# Altium schematic symbol library SCHLib.SchLib: 80 symbols (part 3 of 3)
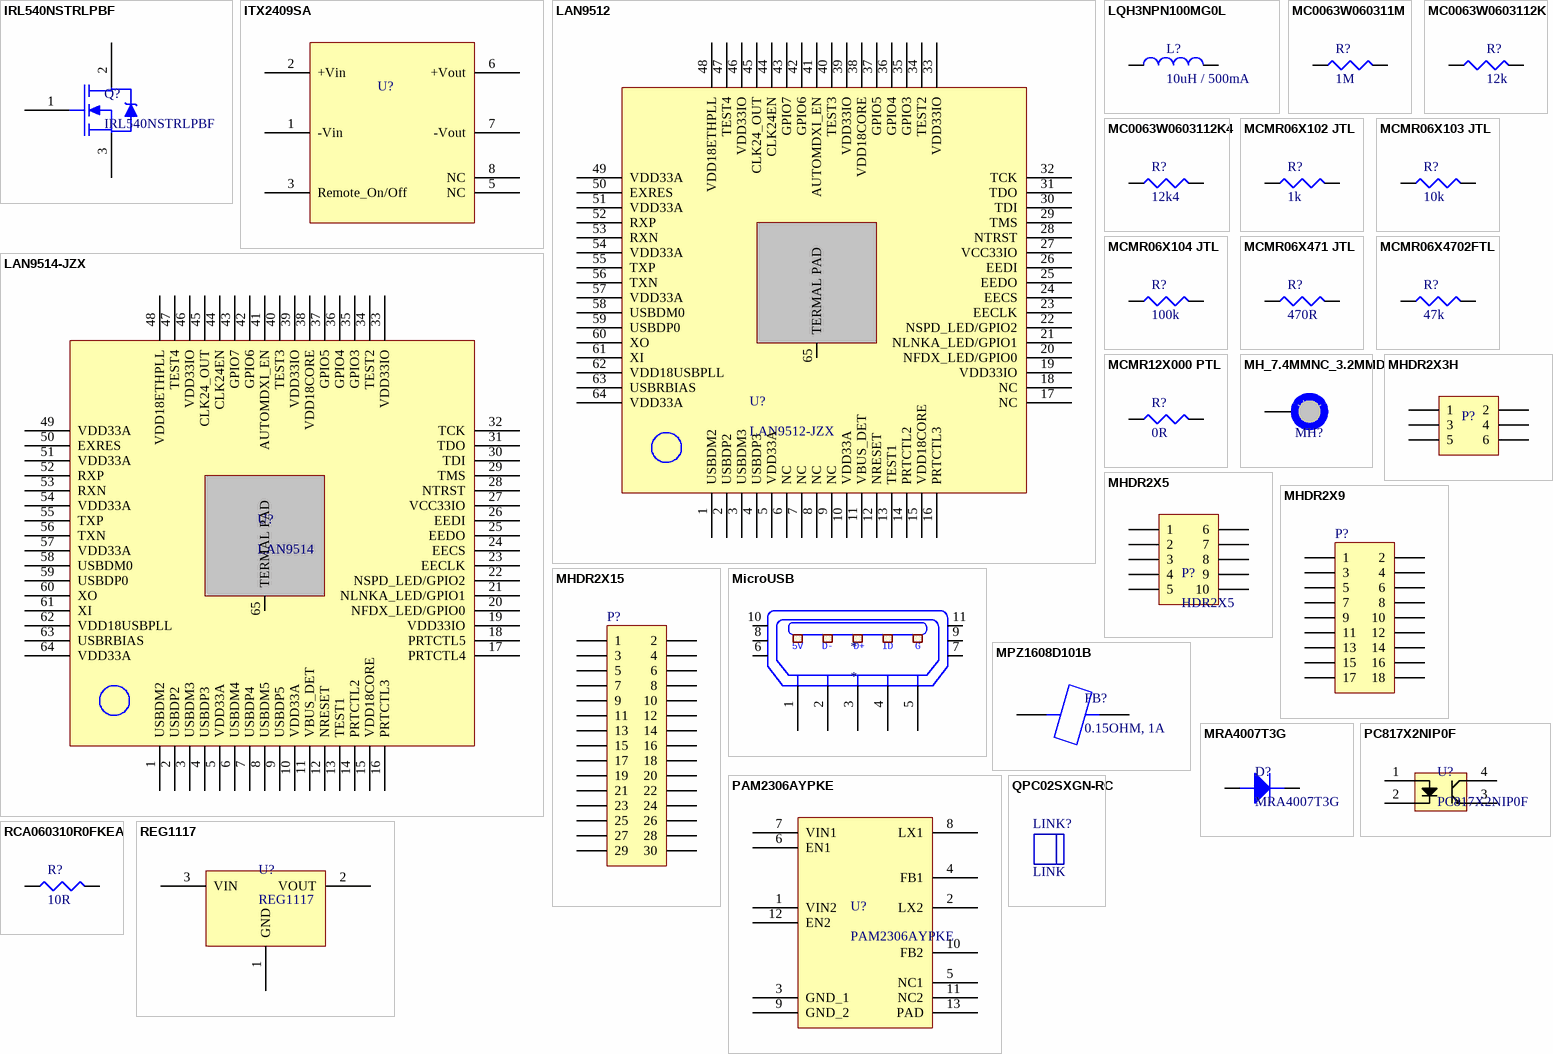
[diagram p4: symbols IRL540NSTRLPBF to REG1117]

## PC817X2NIP0F
designator U?
SHARP - PC817X2NIP0F - OPTOCOUPLER, PHOTOTRANSISTOR, 5KV; No. of Channels: 1 Channel; Optocoupler Case Style: SMD; No. of Pins: 4; Forward Current If Max: 50; Isolation Voltage: 5; CTR Min: 50%; Collector Emitter Voltage V(br)ceo: 80; Product Range: PC8 Series; Output Voltage: 80V<!--FANDB--><div class="features-and-benefits-container"><div class="features-and-benefits-desc-container"><span class="features-and-benefits-container-desc">Optocoupler, Transistor Output, 1 Channel, SMD, 4 Pins, 50 mA, 5 kV, 50 %</span></div><div class="features-and-benefits-description"><span class="features-benefits-value">The PC817X2NIP0F is a Phototransistor Optocoupler with 1 channel and SnCu-plated copper alloy pin construction.</span></div><div class="features-and-benefits-list"><ul class="features-and-benefits-list-list"><li class="features-and-benefits-list-item">6V Reverse voltage</li><li class="features-and-benefits-list-item">70; Supplier 1: Farnell; Manufacturer: SHARP; Manufacturer Part Number: PC817X2NIP0F; RoHS: YES; Stock 1: 3897; Pricing 1: 1=0.367, 25=0.342, 100=0.247, 250=0.23, 500=0.213, 1000=0.141 (GBP); Packaging: Cut Tape; Input Current: 50; MSL: MSL 1 - Unlimited; Optocoupler Output Type: Phototransistor; ComponentLink1URL: http://www.farnell.com/datasheets/1812378.pdf; ComponentLink1Description: http://www.farnell.com/datasheets/1812378.pdf; Supplier Part Number 1: 2420054
footprint SOP127P600-8N
pins: 1 (oc), 2 (oc), 3 (oc), 4 (oc)

## QPC02SXGN-RC
designator LINK?, comment LINK  (mechanical)
CONN JUMPER SHORTING .100" GOLD; Manufacturer: Sullins Connector Solutions; Manufacturer Part Number: QPC02SXGN-RC; Gender: Female Sockets; Number of Positions or Pins (Grid): 2 (1 x 2); Pitch: 0.100" (2.54mm); .Checked SCH: used; Supplier 1: Digi-Key; Supplier Part Number 1: S9337-ND; RoHS: RoHS Compliant; Category: Connectors, Interconnects; Stock 1: 23274; Pricing 1: 1=0.11, 10=0.066, 25=0.0468, 50=0.0384, 100=0.033, 250=0.02792, 500=0.0258, 1000=0.0228, 2500=0.018 (USD); Type: Open Top; Height: 0.235" (5.97mm); Contact Finish: Gold; Contact Finish Thickness: Flash; Color: -; Packaging: Bulk; ComponentLink1URL: http://www.sullinscorp.com/drawings/284_SXGN_11510.pdf; ComponentLink1Description: http://www.sullinscorp.com/drawings/284_SXGN_11510.pdf
footprint JUMPER

## RCA060310R0FKEA
designator R?, comment 10R
VISHAY - RCA060310R0FKEA - RES, AUTO, THICK FILM, 10R, 1%, 0603; Resistance: 10; Voltage Rating: 75; Resistor Case Style: 0603 [1608 Metric]; Power Rating: 100; Product Range: RCA Series; Temperature Coefficient: ± 100; Automotive Qualification Standard: AEC-Q200; SVHC: No SVHC (17-Dec-2015)<!--FANDB--><div class="features-and-benefits-container"><div class="features-and-benefits-description"><span class="features-benefits-value">The RCA series from Vishay are automotive grade, sulphur resistant thick film rectangular chip resistors. The resistance range includes E24 and E96 decade values from 1ohm to 10Mohm. They provide superior resistance against H2S atmosphere. These resistors have metal glaze on high quality ceramic.</span></div><div class="features-and-benefits-list"><ul class="features-and-benefits-list-list"><li class="features-and-benefits-list-item">Automotive grade AEC-Q200 qualified (rev C)</li><li class="features-and-benefits-list-item">EIA 0402, 0603, 0805, 1206, 1210, 1218, 2010 and 2512 case sizes available</li><li class="features-and-benefits-list-item">Available in ±0.5%, ±1% and ±5% tolerances</li><li class="features-and-benefits-list-item">Jumpers are also available</li><li class="features-and-benefits-list-item">±50ppm/K, ±100ppm/K and ±200ppm/K TCR values</li><li class="features-and-benefits-list-item">Power rating of 0.063W, 0.10W, 0.125W, 0.25W, 0.5W, 0.75W and 1W at 70?C</li><li class="features-and-benefits-list-item">Available in 50V, 75V, 150V, 200V, 400V and 500V limiting voltage options</li><li class="features-and-benefits-list-item">Category temperature range from -55?C to 155?C</li><li class="features-and-benefits-list-item">Stability ?R/R = 1 % for 1000h at 70; Supplier 1: Farnell; Manufacturer: VISHAY; Manufacturer Part Number: RCA060310R0FKEA; RoHS: YES; Stock 1: 9559; Pricing 1: 10=0.0803, 100=0.0386, 500=0.0235, 2500=0.015, 5000=0.0135, 10000=0.0108, 50000=0.0068, 100000=0.0067 (GBP); Resistance Tolerance: ± 1%; Packaging: Cut Tape; Resistor Element Material: Thick Film; ComponentLink1URL: http://www.farnell.com/datasheets/2111201.pdf; ComponentLink1Description: http://www.farnell.com/datasheets/2111201.pdf; Supplier Part Number 1: 2616585
footprint RES0603
pins: 1, 2

## REG1117
designator U?
TEXAS INSTRUMENTS - REG1117 - V REG LDO ADJ +1.5/13.7V, SMD, 1117; Output Type: Adjustable; Input Voltage Min: 3.8; Input Voltage Max: 15; Adjustable Output Voltage Min: 1.5; Adjustable Output Voltage Max: 13.5; Output Current: 800; Dropout Voltage Vdo: 1.1; LDO Regulator Case Style: SOT-223; No. of Pins: 3; SVHC: No SVHC (15-Jun-2015); Accuracy %: 1%; Base Number: 1117; No. of Outputs: 1; Output Current Max: 0.8; Output Voltage Adjustable Range: 1.25V to 10; Voltage Regulator Type: Positive Adjustable<!--FANDB--><div class="features-and-benefits-container"><div class="features-and-benefits-description"><span class="features-benefits-value">The REG1117 is a 800mA low dropout Positive Regulator with variety of fixed-and adjustable-voltage versions. Output voltage of the adjustable versions is set with two external resistors. The REG1117 low dropout voltage allows its use with as little as 1; Supplier 1: Farnell; Manufacturer: TEXAS INSTRUMENTS; Manufacturer Part Number: REG1117; RoHS: TBA; Stock 1: 611; Pricing 1: 1=2.02, 10=1.53, 100=1.23, 250=1.06, 1000=0.887, 3000=0.861, 6000=0.835, 10000=0.809 (GBP); Fixed Output Voltage Nom.: -; Operating Temperature Min: -40; Operating Temperature Max: 125; Packaging: Each; Product Range: -; Automotive Qualification Standard: -; MSL: MSL 1 - Unlimited; Operating Temperature Range: 0°C to +125; Operating Voltage Tolerance +: 1%; Output Voltage: 13.5; Output Voltage Max: 13.5; Output Voltage Min: 1.5; Primary Input Voltage: 15; Supply Voltage Min: 3.8; Termination Type: Surface Mount Device; ComponentLink1URL: http://www.farnell.com/datasheets/1919259.pdf; ComponentLink1Description: http://www.farnell.com/datasheets/1919259.pdf; Supplier Part Number 1: 1097566
footprint TI-DCY4_N (SOT223, 4-Leads, Body 6.5x3.5mm, Pitch 2.3mm, IPC Medium Density)
pins: 1 GND, 2 VOUT, 3 VIN

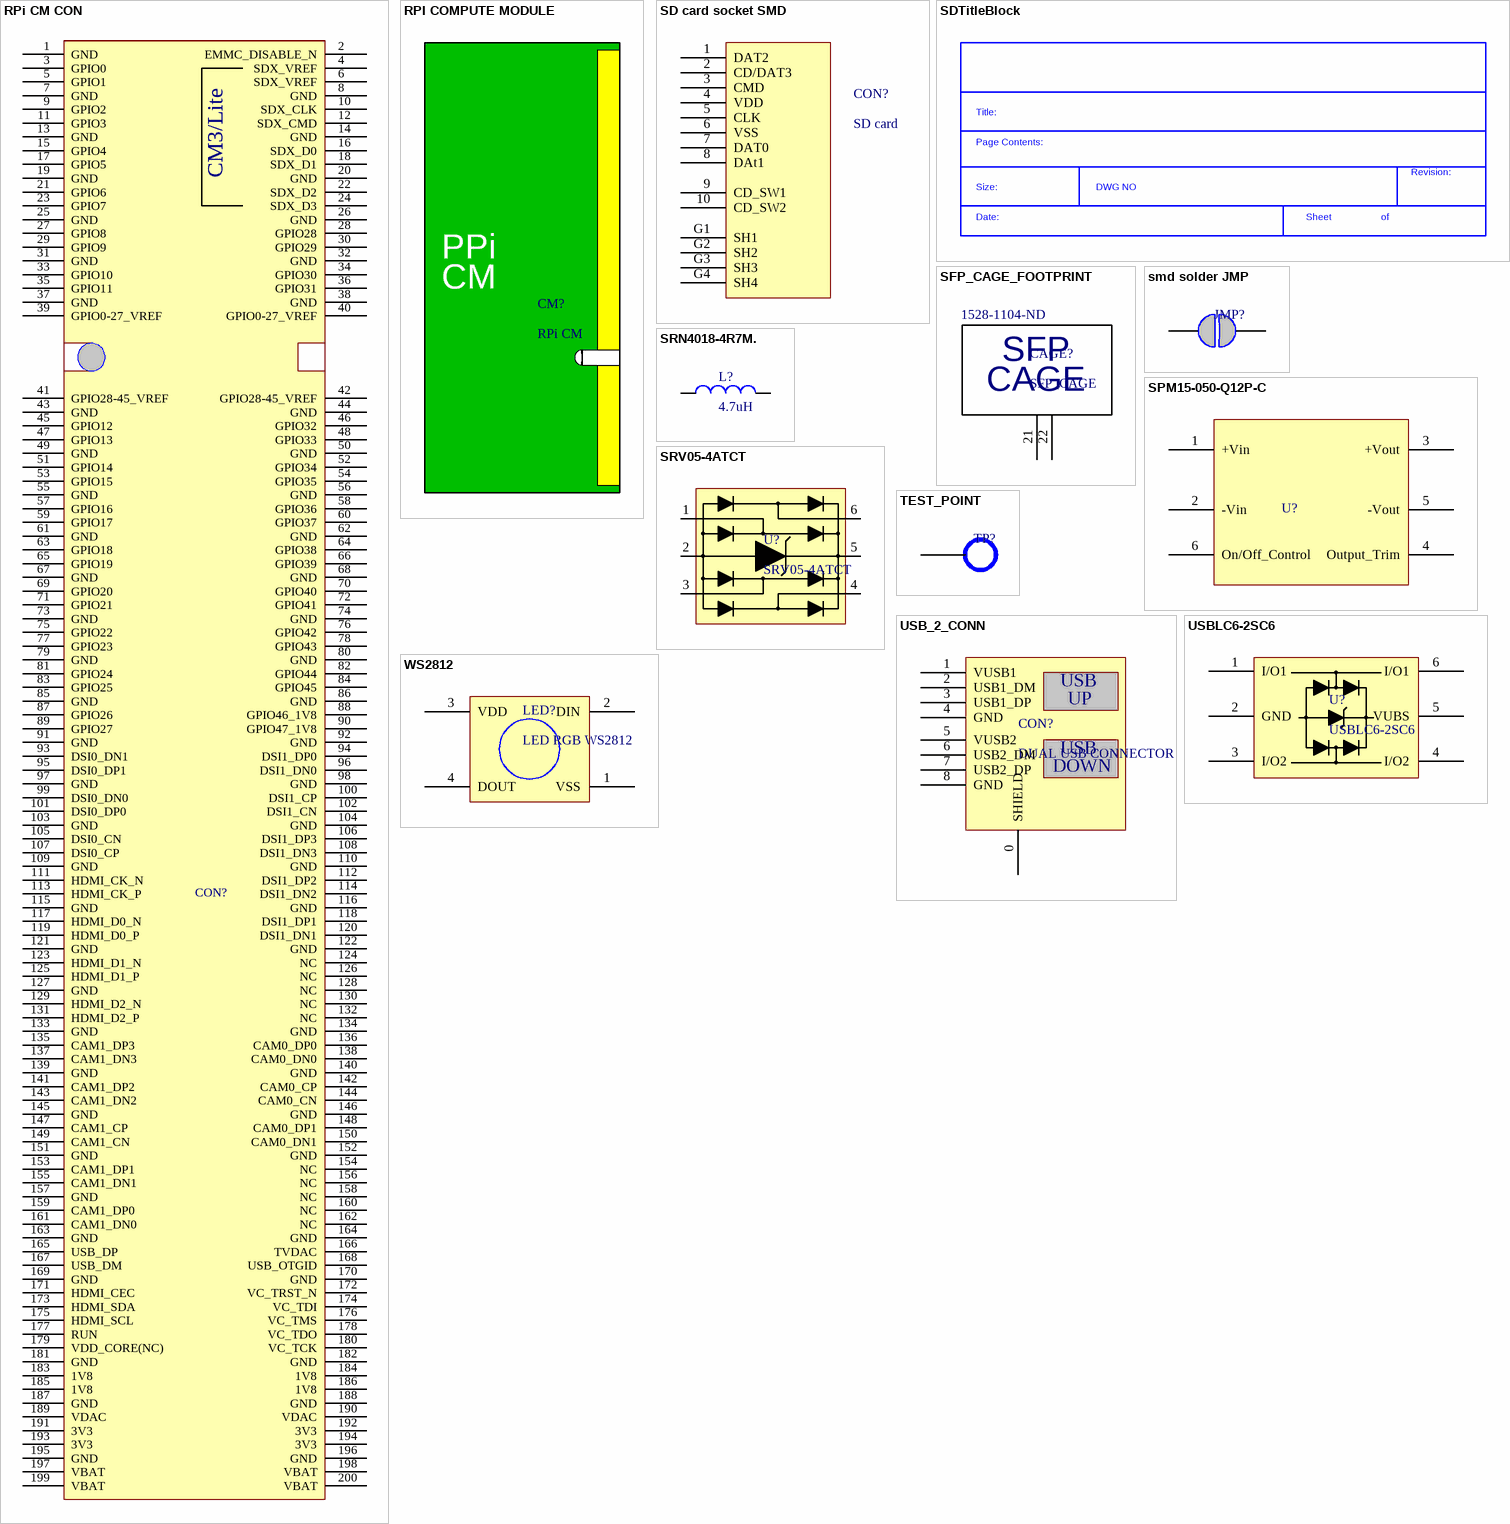
[diagram p2: symbols RPi CM CON to WS2812]

## RPi CM CON
designator CON?, comment 1473005-4  (value not drawn)
DDR2 SODIMM connector for Raspberry Pi compute module 1/3/3-Lite; Manufacturer: AMP - TE CONNECTIVITY; Connector Type: Memory Socket; No. of Contacts: 200; SVHC: No SVHC (15-Jun-2015); Contact Termination: Surface Mount Right Angle; Contact Termination Type: Surface Mount; Pitch Spacing: 0.6; Range: Standard; Row Pitch: 6.2mm<!--FANDB--><div class="features-and-benefits-container"><div class="features-and-benefits-description"><span class="features-benefits-value">The 1473005-4 from TE Connectivity is a standard type DDR2 SODIMM socket. It is a 0.6mm pitch, 200 positions, semi hard tray DDR2 socket.</span></div><div class="features-and-benefits-list"><ul class="features-and-benefits-list-list"><li class="features-and-benefits-list-item">Right angled orientation</li><li class="features-and-benefits-list-item">2 rows and 2 bays</li><li class="features-and-benefits-list-item">DRAM voltage and SGRAM voltage?is 1.8; Supplier 1: Farnell; Manufacturer Part Number: 1473005-4; RoHS: YES; Stock 1: 735; Pricing 1: 1=3.72, 25=2.82, 100=2.62, 250=2.53, 500=2.49, 2000=2.45, 3000=2.41, 5000=2.37 (GBP); Product Range: -; Contact Material: Copper; Contact Plating: Gold Plated Contacts; Lead Spacing: 0.6; Orientation: Right Angle; ComponentLink1URL: http://www.farnell.com/datasheets/2258267.pdf; ComponentLink1Description: http://www.farnell.com/datasheets/2258267.pdf; ComponentLink2URL: http://www.farnell.com/cad/1649684.pdf; ComponentLink2Description: http://www.farnell.com/cad/1649684.pdf; ComponentLink3URL: http://www.farnell.com/datasheets/582309.pdf; ComponentLink3Description: http://www.farnell.com/datasheets/582309.pdf; Supplier Part Number 1: 1095877
footprint BTB-SM0-6-2V200
pins: 1 GND, 2 EMMC_DISABLE_N, 3 GPIO0, 4 SDX_VREF, 5 GPIO1, 6 SDX_VREF, 7 GND, 8 GND, 9 GPIO2, 10 SDX_CLK, 11 GPIO3, 12 SDX_CMD, 13 GND, 14 GND, 15 GPIO4, 16 SDX_D0, 17 GPIO5, 18 SDX_D1, 19 GND, 20 GND, 21 GPIO6, 22 SDX_D2, 23 GPIO7, 24 SDX_D3, 25 GND, 26 GND, 27 GPIO8, 28 GPIO28, 29 GPIO9, 30 GPIO29, 31 GND, 32 GND, 33 GPIO10, 34 GPIO30, 35 GPIO11, 36 GPIO31, 37 GND, 38 GND, 39 GPIO0-27_VREF, 40 GPIO0-27_VREF, 41 GPIO28-45_VREF, 42 GPIO28-45_VREF, 43 GND, 44 GND, 45 GPIO12, 46 GPIO32, 47 GPIO13, 48 GPIO33, 49 GND, 50 GND, 51 GPIO14, 52 GPIO34, 53 GPIO15, 54 GPIO35, 55 GND, 56 GND, 57 GPIO16, 58 GPIO36, 59 GPIO17, 60 GPIO37, 61 GND, 62 GND, 63 GPIO18, 64 GPIO38, 65 GPIO19, 66 GPIO39, 67 GND, 68 GND, 69 GPIO20, 70 GPIO40, 71 GPIO21, 72 GPIO41, 73 GND, 74 GND, 75 GPIO22, 76 GPIO42, 77 GPIO23, 78 GPIO43, 79 GND, 80 GND, 81 GPIO24, 82 GPIO44, 83 GPIO25, 84 GPIO45, 85 GND, 86 GND, 87 GPIO26, 88 GPIO46_1V8, 89 GPIO27, 90 GPIO47_1V8, 91 GND, 92 GND, 93 DSI0_DN1, 94 DSI1_DP0, 95 DSI0_DP1, 96 DSI1_DN0, 97 GND, 98 GND, 99 DSI0_DN0, 100 DSI1_CP, 101 DSI0_DP0, 102 DSI1_CN, 103 GND, 104 GND, 105 DSI0_CN, 106 DSI1_DP3, 107 DSI0_CP, 108 DSI1_DN3, 109 GND, 110 GND, 111 HDMI_CK_N, 112 DSI1_DP2, 113 HDMI_CK_P, 114 DSI1_DN2, 115 GND, 116 GND, 117 HDMI_D0_N, 118 DSI1_DP1, 119 HDMI_D0_P, 120 DSI1_DN1, 121 GND, 122 GND, 123 HDMI_D1_N, 124 NC, 125 HDMI_D1_P, 126 NC, 127 GND, 128 NC, 129 HDMI_D2_N, 130 NC, 131 HDMI_D2_P, 132 NC, 133 GND, 134 GND, 135 CAM1_DP3, 136 CAM0_DP0, 137 CAM1_DN3, 138 CAM0_DN0, 139 GND, 140 GND, 141 CAM1_DP2, 142 CAM0_CP, 143 CAM1_DN2, 144 CAM0_CN, 145 GND, 146 GND, 147 CAM1_CP, 148 CAM0_DP1, 149 CAM1_CN, 150 CAM0_DN1, 151 GND, 152 GND, 153 CAM1_DP1, 154 NC, 155 CAM1_DN1, 156 NC, 157 GND, 158 NC, 159 CAM1_DP0, 160 NC, 161 CAM1_DN0, 162 NC, 163 GND, 164 GND, 165 USB_DP, 166 TVDAC, 167 USB_DM, 168 USB_OTGID, 169 GND, 170 GND, 171 HDMI_CEC, 172 VC_TRST_N, 173 HDMI_SDA, 174 VC_TDI, 175 HDMI_SCL, 176 VC_TMS, 177 RUN, 178 VC_TDO, 179 VDD_CORE(NC), 180 VC_TCK, 181 GND, 182 GND, 183 1V8, 184 1V8, 185 1V8, 186 1V8, 187 GND, 188 GND, 189 VDAC, 190 VDAC, 191 3V3, 192 3V3, 193 3V3, 194 3V3, 195 GND, 196 GND, 197 VBAT, 198 VBAT, 199 VBAT, 200 VBAT
text: CM3/Lite

## RPI COMPUTE MODULE
designator CM?, comment RPi CM  (mechanical)
RASPBERRY-PI - RPI COMPUTE MODULE - COMPUTE MODULE, RASPBERRY PI DEV BOARD; Silicon Manufacturer: Broadcom; Core Architecture: ARM; Core Sub-Architecture: ARM1176; Silicon Core Number: BCM2835; Silicon Family Name: BCM2; For Use With: Raspberry Pi Compute Development Kit; Kit Contents: Compute Module BCM2835; Kit Features: Flexible & Rapid Prototype Development, Small & Powerful, Many More GPIOs & Interfaces<!--FANDB--><div class="features-and-benefits-container"><div class="features-and-benefits-desc-container"><span class="features-and-benefits-container-desc">Raspberry Pi Compute Module</span></div><div class="features-and-benefits-description"><span class="features-benefits-value">Flexible & Rapid Prototype Development, Small & Powerful, Many More GPIOs & Interfaces</span></div><div class="features-and-benefits-list"><ul class="features-and-benefits-list-list"><li class="features-and-benefits-list-item">Flexible & Rapid Prototype Development, Small & Powerful, Many More GPIOs & Interfaces</li></ul></div></div>; Supplier 1: Farnell; Manufacturer: RASPBERRY-PI; Manufacturer Part Number: RPI COMPUTE MODULE; RoHS: YES; Pricing 1: 1=19.5 (GBP); Product Range: -; Features: 512MB RAM, SODIMM Sized 6.5cm by 3cm Board, 200pin Edge Connector, On-board 4; ComponentLink1URL: http://bcove.me/qikksixg; ComponentLink1Description: http://bcove.me/qikksixg; ComponentLink2URL: http://www.farnell.com/datasheets/1829397.pdf; ComponentLink2Description: http://www.farnell.com/datasheets/1829397.pdf; Supplier Part Number 1: 2427122
text: PPi; CM

## SD card socket SMD
designator CON?, comment SD card
CONN MICRO SD CARD PUSH-PULL R/A; Manufacturer: Molex, LLC; Manufacturer Part Number: 1040310811; Card Type: Secure Digital - microSD™; Number of Positions: 10 (8 + 2); Connector Type: Connector; Insertion, Removal Method: Push In, Pull Out; Supplier 1: Digi-Key; RoHS: RoHS Compliant; Category: Connectors, Interconnects; Stock 1: 22429; Pricing 1: 1=1.92, 10=1.742, 25=1.6352, 50=1.564, 100=1.493, 250=1.35076, 500=1.24412, 1000=1.0664 (USD); Packaging: Cut Tape (CT); Part Status: Active; Ejector Side: -; Mounting Type: Surface Mount, Right Angle; Features: -; Height Above Board: 0.056" (1.42mm); Mounting Feature: Normal, Standard - Top; Contact Finish: Gold; Contact Finish Thickness: 8µin (0.20µm); ComponentLink1URL: http://www.molex.com/pdm_docs/sd/1040310811_sd.pdf; ComponentLink1Description: http://www.molex.com/pdm_docs/sd/1040310811_sd.pdf; Supplier Part Number 1: WM6357CT-ND
footprint MICRO SD CARD SOCKET
pins: 1 DAT2 (oc), 2 CD/DAT3 (oc), 3 CMD (oc), 4 VDD (oc), 5 CLK (oc), 6 VSS (oc), 7 DAT0 (oc), 8 DAt1 (oc), 9 CD_SW1 (oc), 10 CD_SW2 (oc), G1 SH1 (oc), G2 SH2 (oc), G3 SH3 (oc), G4 SH4 (oc)

## SDTitleBlock
designator *?  (value not drawn)  (graphical)
text: Title:; Page Contents:; Revision:; Size:; DWG NO; Date:; Sheet; of

## SFP_CAGE_FOOTPRINT
designator CAGE?, comment SFP_CAGE  Supplier Part Number 2: 1528-1104-ND
TE CONNECTIVITY - 2007194-1 - CAGE, 1X1, SFP+, PCI APPLICATIONS; Accessory Type: Connector Cage / Frame; For Use With: Small Form-Factor Pluggable Connectors; Connector Mounting: PCB Mount; Connector Mounting Orientation: PC Board; Connector Type: SFP; Contact Termination: Solder; Configuration: Discrete; Number of LEDs: 10; Utilized LED: SK6812 or WS2812; Interface: Serial (Shift Register); Supplier 1: Farnell; Manufacturer: TE CONNECTIVITY; Manufacturer Part Number: 2007194-1; RoHS: YES; Stock 1: 26; Pricing 1: 1=4.6, 5=4.41, 10=4.22, 25=4.03, 50=3.5, 200=3.18, 500=2.86, 2000=2.8 (GBP); Product Range: -; Material: Nickel Silver<!--FANDB--><div class="features-and-benefits-container"><div class="features-and-benefits-description"><span class="features-benefits-value">The 2007194-1 is a 1-port Cage Assembly with external springs and solder through-hole termination. It is made with nickel silver single cage. The SFP+ pluggable cage designed to support data rate of 16Gbps. This SFP+ pluggable cage has one degree mounting angle to meet the requirements of SFF-8075 for PCI card applications and support belly-to-belly mount applications.</span></div><div class="features-and-benefits-applications"><ul class="features-and-benefits-value"><li class="features-and-benefits-list-item">Industrial</li></ul></div></div>; ComponentLink1URL: http://www.farnell.com/datasheets/1654545.pdf; ComponentLink1Description: http://www.farnell.com/datasheets/1654545.pdf; ComponentLink2URL: http://www.farnell.com/cad/1661409.pdf; ComponentLink2Description: http://www.farnell.com/cad/1661409.pdf; ComponentLink3URL: http://www.farnell.com/datasheets/1922296.pdf; ComponentLink3Description: http://www.farnell.com/datasheets/1922296.pdf; Supplier Part Number 1: 1755779; Supplier 2: Digi-Key; Category: Optoelectronics; Stock 2: 7416; Pricing 2: 1=4.5, 10=4.05 (USD); Part Status: Active; Color: Red, Green, Blue (RGB); Controller Type: -; Mounting Type: Surface Mount; Size / Dimension: 5.00mm L x 5.00mm W; ComponentLink4URL: https://cdn-shop.adafruit.com/product-files/1138/SK6812+LED+datasheet+.pdf; ComponentLink4Description: https://cdn-shop.adafruit.com/product-files/1138/SK6812+LED+datasheet+.pdf
footprint PCB_SFP_CAGE_FOOTPRINT
pins: 21 (oc), 22 (oc)
text: CAGE

## smd solder JMP
designator JMP?  (value not drawn)  (no BOM)
footprint RES0603
pins: 1 (oc), 2 (oc)

## SPM15-050-Q12P-C
designator U?  (value not drawn)
Isolated Board Mount DC/DC Converter, Medical, Fixed, 1 Output, 9 V, 36 V, 15 W, 5 V; Manufacturer: MURATA POWER SOLUTIONS; Input Voltage DC Min: 9; Input Voltage DC Max: 36; Output Power Max: 15; Output Voltage - Output 1: 5; Output Current - Output 1: 3; DC / DC Converter Type: DIP; DC / DC Converter Mounting: Through Hole; Approvals & Standards: CAN, CSA, IEC, UL; Product Range: SPM15 Series; SVHC: No SVHC (17-Dec-2015)<!--FANDB--><div class="features-and-benefits-container"><div class="features-and-benefits-description"><span class="features-benefits-value">The SPM15-050-Q12P-C is an isolated DC-DC Converter represents the next generation in Industrial Potted Module Technology. Featuring a full 15W output in one square inch of board area, the device isolated DC-DC converter offers efficient regulated DC power for printed circuit board mounting. The 1 x 1 x 0.41-inch converter accepts a wide range of input voltages, ideal for industrial applications. The converter offers a feature/option set including through-hole mounting, positive or negative logic (remote ON/OFF), overcurrent and overtemperature protection, under-voltage lockout. The input voltage range covers the standard Industrial requirements with a regulated output voltage and power rating up to 15W. Modules provide voltage isolation (basic insulation) from input to output of up to 1600V. .The Module delivers full output power to 70°C with no airflow. It is ideal for applications that do not require any heat sinking or forced air cooling.</span></div><div class="features-and-benefits-list"><ul class="features-and-benefits-list-list"><li class="features-and-benefits-list-item">High efficiency</li><li class="features-and-benefits-list-item">Monotonic start-up</li><li class="features-and-benefits-list-item">Continuous short circuit protection</li><li class="features-and-benefits-list-item">Low output ripple and noise</li><li class="features-and-benefits-list-item">Strong thermal derating characteristics</li><li class="features-and-benefits-list-item">Positive ON/OFF control logic</li><li class="features-and-benefits-list-item">1600V I/O isolation</li><li class="features-and-benefits-list-item">±0.1 Load and ±0.05% line maximum regulation</li><li class="features-and-benefits-list-item">88% Typical efficiency</li><li class="features-and-benefits-list-item">100; No. of Contacts: 20; Gender: Receptacle; Connector Type: SFP; Contact Termination Type: Solder; Connector Mounting: PCB Mount; Connector Mounting Orientation: Surface Mount; Supplier 1: Farnell; Manufacturer Part Number: SPM15-050-Q12P-C; RoHS: Y-EX; Stock 1: 84; Pricing 1: 1=29.43, 10=29.19, 25=28.95, 50=28.71 (GBP); DC / DC Converter Output Type: Fixed; No. of Outputs: 1 Output; Output Voltage - Output 2: -; Output Current - Output 2: -; Width: 25.4; Height: 10.41; Depth: 25.4; Output Voltage - Output 3: -; Output Current - Output 3: -; ComponentLink1URL: http://www.farnell.com/datasheets/1932853.pdf; ComponentLink1Description: http://www.farnell.com/datasheets/1932853.pdf; ComponentLink2URL: http://www.farnell.com/datasheets/2239469.pdf; ComponentLink2Description: http://www.farnell.com/datasheets/2239469.pdf; Supplier 2: Mouser; Supplier Part Number 1: 2470131; Supplier Part Number 2: 580-SPM15-050-Q12P-C; Contact Plating: Gold Plated Contacts; Contact Material: Phosphor Bronze; Colour: Black; Contact Termination: Solder; Flammability Rating: UL 94V-0; Material: Liquid Crystal Polymer (LCP); Packaging: Cut Tape; Termination Method: Solder<!--FANDB--><div class="features-and-benefits-container"><div class="features-and-benefits-description"><span class="features-benefits-value">The 1367073-1 is a 20-pin 1-port surface-mount SFP Connector with gold-plated phosphor bronze contacts and black LCP housing. The connector features integrated light pipes for port indicators, connectors with improved signal integrity, enhanced EMI springs for increased EMI suppression and riding heat sink technology for thermal management.</span></div><div class="features-and-benefits-list"><ul class="features-and-benefits-list-list"><li class="features-and-benefits-list-item">Supports applications up to 4Gbps</li><li class="features-and-benefits-list-item">Cages available in single port, ganged and stacked configurations</li><li class="features-and-benefits-list-item">Stacked cages have integrated connectors, press-fit in one process step</li><li class="features-and-benefits-list-item">Uses 20 position PT (pluggable transceiver) connector</li><li class="features-and-benefits-list-item">Direct attach copper cable assemblies for lower cost with short reach</li><li class="features-and-benefits-list-item">Integrated light pipes for port indicators</li><li class="features-and-benefits-list-item">Enhanced EMI springs for increased EMI suppression</li><li class="features-and-benefits-list-item">Riding heat sink technology for thermal management</li></ul></div><div class="features-and-benefits-applications"><ul class="features-and-benefits-value"><li class="features-and-benefits-list-item">Industrial</li></ul></div></div>; ComponentLink3URL: http://www.tycoelectronics.com/commerce/DocumentDelivery/DDEController?Action=srchrtrv&DocNm=1367073-1&DocType=Customer+View+Model&DocLang=English; ComponentLink3Description: http://www.tycoelectronics.com/commerce/DocumentDelivery/DDEController?Action=srchrtrv&DocNm=1367073-1&DocType=Customer+View+Model&DocLang=English; ComponentLink4URL: http://www.farnell.com/cad/1794462.pdf; ComponentLink4Description: http://www.farnell.com/cad/1794462.pdf; ComponentLink5URL: http://www.tycoelectronics.com/commerce/DocumentDelivery/DDEController?Action=srchrtrv&DocNm=408-8495&DocType=Specification+Or+Standard&DocLang=English; ComponentLink5Description: http://www.tycoelectronics.com/commerce/DocumentDelivery/DDEController?Action=srchrtrv&DocNm=408-8495&DocType=Specification+Or+Standard&DocLang=English; ComponentLink6URL: http://www.farnell.com/datasheets/1650946.pdf; ComponentLink6Description: http://www.farnell.com/datasheets/1650946.pdf
footprint DCDC_M2
pins: 1 +Vin, 2 -Vin, 3 +Vout, 4 Output_Trim, 5 -Vout, 6 On/Off_Control

## SRN4018-4R7M.
designator L?, comment 4.7uH
BOURNS - SRN4018-4R7M. - INDUCTOR, SEMI-SHIELDED, 4.7uH, 1.9A, 20%, SMD; Product Range: SRN4018 Series; Inductance: 4.7 H; Inductor Construction: Semishielded; DC Resistance Max: 0.084; RMS Current (Irms): 1.9; Supplier 1: Farnell; Manufacturer: BOURNS; Manufacturer Part Number: SRN4018-4R7M.; RoHS: YES; Stock 1: 1456; Pricing 1: 1=0.373, 10=0.269, 100=0.197, 250=0.186, 500=0.17, 1000=0.144 (GBP); Inductance Tolerance: 20%; Packaging: Cut Tape; ComponentLink1URL: http://www.farnell.com/datasheets/1684089.pdf; ComponentLink1Description: http://www.farnell.com/datasheets/1684089.pdf; Supplier Part Number 1: 2408944
footprint INDP4040X18N (Precision Wire Wound Inductor, 2-Leads, Body 4.00x4.00mm, IPC Medium Density)
pins: 1, 2

## SRV05-4ATCT
designator U?
TVS DIODE 5VWM 17.5VC SOT23-6; Manufacturer: Semtech Corporation; Voltage - Reverse Standoff (Typ): 5V (Max); Voltage - Breakdown (Min): 6V; Voltage - Clamping (Max) @ Ipp: 17.5V; Current - Peak Pulse (10/1000µs): 12A (8/20µs); Power - Peak Pulse: 300W; Power Line Protection: Yes; Capacitance @ Frequency: 3pF @ 1MHz; Supplier 1: Digi-Key; Manufacturer Part Number: SRV05-4ATCT; RoHS: RoHS Compliant; Category: Circuit Protection; Stock 1: 15433; Pricing 1: 1=1.19, 10=1.054, 25=0.9516, 100=0.8328, 250=0.7308, 500=0.64582, 1000=0.50985 (USD); Packaging: Cut Tape (CT); Part Status: Active; Type: Steering (Rail to Rail); Applications: General Purpose; Operating Temperature: -55°C ~ 125°C (TJ); Mounting Type: Surface Mount; Package / Case: SOT-23-6; Supplier Device Package: SOT-23-6; ComponentLink1URL: http://www.semtech.com/images/datasheet/srv05-4a.pdf; ComponentLink1Description: http://www.semtech.com/images/datasheet/srv05-4a.pdf; Supplier Part Number 1: SRV05-4ATCTCT-ND
footprint SOT23127P600-8N
pins: 1 (oc), 2 (oc), 3 (oc), 4 (oc), 5 (oc), 6 (oc)

## TEST_POINT
designator TP?  (value not drawn)  (no BOM)
Test point
footprint TEST_POINT
pins: 1 TP (oc)

## USB_2_CONN
designator CON?, comment DUAL USB CONNECTOR
USB 2.0 A Dual Port RA TH, PN0205
footprint DUAL_USB_CONN
pins: 0 SHIELD (oc), 1 VUSB1 (oc), 2 USB1_DM (oc), 3 USB1_DP (oc), 4 GND (oc), 5 VUSB2 (oc), 6 USB2_DM (oc), 7 USB2_DP (oc), 8 GND (oc)
text: USB; UP; DOWN

## USBLC6-2SC6
designator U?
STMICROELECTRONICS - USBLC6-2SC6 - ESD PROTECTION, 3.5PF, 17V, SOT23; Clamping Voltage Vc Max: 17; Diode Case Style: SOT-23; No. of Pins: 6; Product Range: USBLC Series; SVHC: No SVHC (17-Dec-2015); Diode Type: Low Capacitance, ESD Protection; USB Standard: USB 2.0<!--FANDB--><div class="features-and-benefits-container"><div class="features-and-benefits-description"><span class="features-benefits-value">The USBLC6-2SC6 from STMicroelectronics is a very low capacitance ESD protection device in 6pin SOT-23 package. This monolithic application specific device is dedicated to ESD protection of high speed interfaces such as USB 2.0, Ethernet links and video lines. The very low line capacitance secures a high level of signal integrity without compromising in protecting sensitive chips against most stringently characterized ESD strikes. It also provides optimized data integrity and speed. The USBLC6-2SC6 features enhanced ESD protection (IEC 61000-4-2 level 4 compliance) hence results in greater immunity at system level. It offers fast response time and low leakage current for longer operation of battery powered devices.</span></div><div class="features-and-benefits-list"><ul class="features-and-benefits-list-list"><li class="features-and-benefits-list-item">Two data line protection</li><li class="features-and-benefits-list-item">Capacitance between I/O and GND is 2.5pF at VR=1.65V</li><li class="features-and-benefits-list-item">Very low leakage current of 10nA</li><li class="features-and-benefits-list-item">Low PCB space consumption (9mm² for SOT23-6L package)</li><li class="features-and-benefits-list-item">ESD protection of VBUS</li><li class="features-and-benefits-list-item">High reliability offered by monolithic integration</li><li class="features-and-benefits-list-item">Clamping voltage (Vcl) of 17V at IPP=5A and 8/20?s</li><li class="features-and-benefits-list-item">Breakdown voltage (Vbr) of 6V between VBUS and GND at IR=1mA</li><li class="features-and-benefits-list-item">Peak pulse voltage (Vpp) of 25KV according to MIL STD883G method 3015-7</li><li class="features-and-benefits-list-item">Operating junction temperature range from -40°C to 125; Supplier 1: Farnell; Manufacturer: STMICROELECTRONICS; Manufacturer Part Number: USBLC6-2SC6; RoHS: YES; Stock 1: 8817; Pricing 1: 1=0.215, 80=0.149, 250=0.148, 750=0.146, 1500=0.145 (GBP); Operating Voltage: 6; Power Dissipation Pd: -; Packaging: Cut Tape; Automotive Qualification Standard: -; MSL: MSL 1 - Unlimited; Operating Temperature Range: -50°C to +125; Termination Type: Surface Mount Device; ComponentLink1URL: http://www.farnell.com/datasheets/1738051.pdf; ComponentLink1Description: http://www.farnell.com/datasheets/1738051.pdf; ComponentLink2URL: http://www.farnell.com/datasheets/2158622.pdf; ComponentLink2Description: http://www.farnell.com/datasheets/2158622.pdf; Supplier Part Number 1: 1269406
footprint SOT23127P600-8N
pins: 1 I/O1 (oc), 2 GND (oc), 3 I/O2 (oc), 4 I/O2 (oc), 5 VUBS (oc), 6 I/O1 (oc)

## WS2812
designator LED?, comment LED RGB WS2812
LED RGB WS2812 OR SK6812 1=10; Manufacturer: Adafruit Industries LLC; Manufacturer Part Number: 1655; Configuration: Discrete; Number of LEDs: 10; Color: Red, Green, Blue (RGB); Utilized LED: SK6812 or WS2812; Interface: Serial (Shift Register); Supplier 1: Digi-Key; RoHS: RoHS Compliant; Category: Optoelectronics; Stock 1: 7416; Pricing 1: 1=4.5, 10=4.05 (USD); Part Status: Active; Controller Type: -; Mounting Type: Surface Mount; Size / Dimension: 5.00mm L x 5.00mm W; ComponentLink1URL: https://cdn-shop.adafruit.com/product-files/1138/SK6812+LED+datasheet+.pdf; ComponentLink1Description: https://cdn-shop.adafruit.com/product-files/1138/SK6812+LED+datasheet+.pdf; Supplier Part Number 1: 1528-1104-ND
footprint LED_SMD5050
pins: 1 VSS (oc), 2 DIN (oc), 3 VDD (oc), 4 DOUT (oc)